# Altium schematic symbol library LDK120.SchLib: 1 symbol
Pins are listed as number, name and electrical type; pins without a type are passive.

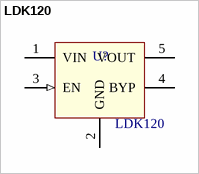
[diagram p0: symbol LDK120]

## LDK120
designator U?
200 mA low quiescent current very low noise LDO; Manufacturer: ST; Info: Pinout for SOT23-5L, SOT323-5L only!; Mouser link: http://au.mouser.com/ProductDetail/STMicroelectronics/LDK120M25R/; Value: LDK120
footprint LDK120-SOT23-5L
pins: 1 VIN (power), 2 GND (power), 3 EN (in), 4 BYP, 5 VOUT (power)